# EAGLE library part BNO055 (library Sensor)
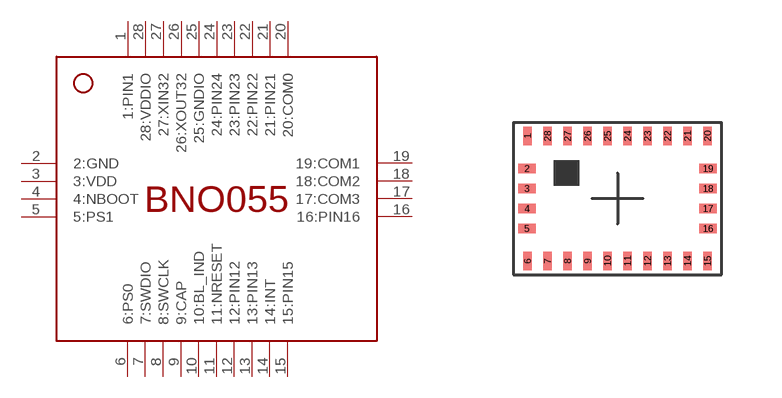
[diagram p0: symbol with the pads of LGA; footprint LGA]

Designator prefix -

## BNO055  [LGA]
1  1:PIN1  nc
2  2:GND  sup
3  3:VDD  pwr
4  4:NBOOT  in
5  5:PS1  in
6  6:PS0  in
7  7:SWDIO
8  8:SWCLK  in
9  9:CAP
10  10:BL_IND  out
11  11:NRESET
12  12:PIN12  nc
13  13:PIN13  nc
14  14:INT  out
15  15:PIN15  nc
16  16:PIN16  nc
17  17:COM3  in
18  18:COM2
19  19:COM1
20  20:COM0
21  21:PIN21  nc
22  22:PIN22  nc
23  23:PIN23  nc
24  24:PIN24  nc
25  25:GNDIO  sup
26  26:XOUT32  out
27  27:XIN32  in
28  28:VDDIO  pwr

## Footprint LGA (pad centres in mm)
smd 0.25 x 0.475: 1 -2.25,1.562; 6 -2.25,-1.562; 7 -1.75,-1.562; 8 -1.25,-1.562; 9 -0.75,-1.562; 10 -0.25,-1.562; 11 0.25,-1.562; 12 0.75,-1.562; 13 1.25,-1.562; 14 1.75,-1.562; 15 2.25,-1.562; 20 2.25,1.562; 21 1.75,1.562; 22 1.25,1.562; 23 0.75,1.562; 24 0.25,1.562; 25 -0.25,1.562; 26 -0.75,1.562; 27 -1.25,1.562; 28 -1.75,1.562
smd 0.475 x 0.25: 2 -2.263,0.75; 3 -2.263,0.25; 4 -2.263,-0.25; 5 -2.263,-0.75; 16 2.263,-0.75; 17 2.263,-0.25; 18 2.263,0.25; 19 2.263,0.75